# Altium footprint library Capacitors.PcbLib: 19 footprints (part 1 of 2)
Each footprint in its own frame and in the unit in brackets; x right, y up, seen from the top. Pads: shape width x height; smd on the part's side, far side on the other; paste and mask are expansions set on the pad; w line width, h text height; cw(c..) or ccw(c..) is an arc to the next point about the centre after c.
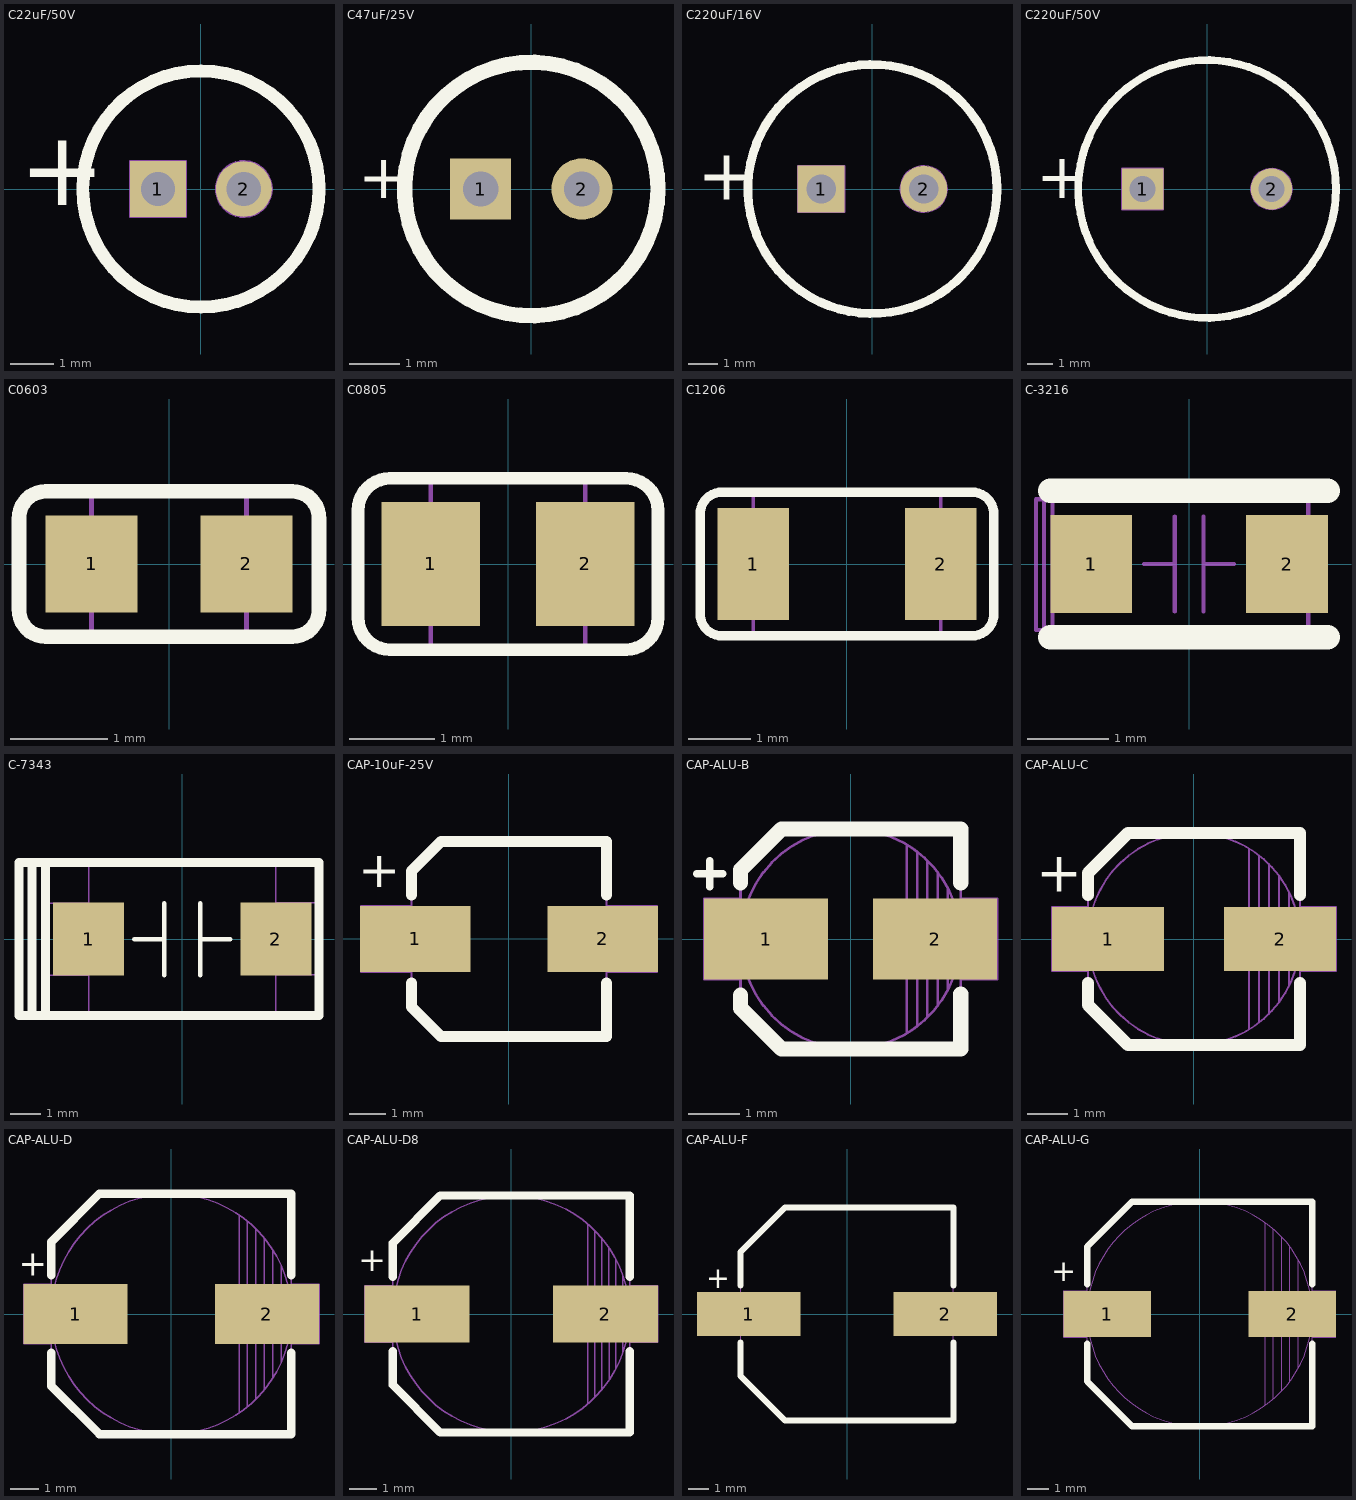
[diagram p0: the footprints below, top view; thin cyan lines are the x and y axes]

## C22uF/50V [mm]
height 12.5
pads (2):
  rect 1.3x1.3 hole 0.8 mask+0.1: 1(-1,0)
  round 1.3 hole 0.8 mask+0.1: 2(1,0)
Top Overlay:
  circle w0.3: c0,0 r2.75
  text "+" at -4.236,-0.946 h3
Top HCB:
  circle w0.05: c0,0 r2.75
  circle w0.05: c1,0 r0.65
  lines w0.05: -1.65,-0.65 -0.35,-0.65 -0.35,0.65 -1.65,0.65 -1.65,-0.65
  text ".Designator" at -2.253,0.774 h1
  text "+" at -4.236,-0.946 h3
  text "1" at -1.118,-0.322 h1
  text "2" at 0.787,-0.322 h1
3D body "User Library-Cap electro 5x11x2mm.STEP": height 11.53, standoff -3.27, extent -2.525,-2.525 2.526,2.526

## C47uF/25V [mm]
height 11
pads (2):
  rect 1.208x1.208 hole 0.7: 1(-1,0)
  round 1.208 hole 0.7: 2(1,0)
Top Overlay:
  circle w0.3: c0,0 r2.5
  text "+" at -3.417,-0.473 h1.5
Top HCB:
  circle w0.05: c0,0 r2.5
  text "+" at -3.417,-0.473 h1.5
  text ".Designator" at -1.127,0.987 h0.5
3D body "User Library-Cap electro 5x11x2mm.STEP": height 11.33, standoff -3.47, extent -2.525,-2.525 2.526,2.526

## C220uF/16V [mm]
height 12.5
pads (2):
  rect 1.6x1.6 hole 1 mask+0.1: 1(-1.75,0)
  round 1.6 hole 1 mask+0.1: 2(1.75,0)
Top Overlay:
  circle w0.3: c0,0 r4.25
  text "+" at -5.986,-0.946 h3
Top HCB:
  circle w0.05: c1.75,0 r0.8
  circle w0.05: c0,0 r4.25
  lines w0.05: -2.55,-0.8 -2.55,0.8 -0.95,0.8 -0.95,-0.8 -2.55,-0.8
  text "2" at 1.537,-0.322 h1
  text "1" at -1.868,-0.322 h1
  text "+" at -5.986,-0.946 h3
3D body "User Library-Cap electro 8x11_5x3_5mm.STEP": height 12.03, standoff -3.48, extent -4.025,-4.025 4.026,4.026

## C220uF/50V [mm]
height 16
pads (2):
  rect 1.6x1.6 hole 1 mask+0.1: 1(-2.5,0)
  round 1.6 hole 1 mask+0.1: 2(2.5,0)
Top Overlay:
  circle w0.3: c0,0 r5
  text "+" at -6.636,-0.946 h3
Top HCB:
  circle w0.05: c2.5,0 r0.8
  circle w0.05: c0,0 r5
  lines w0.05: -3.3,-0.8 -3.3,0.8 -1.7,0.8 -1.7,-0.8 -3.3,-0.8
  text ".Designator" at -2.253,-0.226 h1
  text "1" at -2.618,-0.322 h1
  text "2" at 2.287,-0.322 h1
  text "+" at -6.636,-0.946 h3
3D body "User Library-Cap electro 10x16x5_0mm.STEP": height 16.53, standoff -3.74, extent -5.025,-5.025 5.026,5.026

## C0603 [mm]
pads (2):
  rect 0.95x1 smd: 1(-0.8,0) 2(0.8,0)
Top Overlay:
  lines w0.15: -1.55,-0.475 ccw(c-1.275,-0.475) -1.275,-0.75 1.275,-0.75 ccw(c1.275,-0.475) 1.55,-0.475 1.55,0.475 ccw(c1.275,0.475) 1.275,0.75 -1.275,0.75 ccw(c-1.275,0.475) -1.55,0.475 -1.55,-0.475
Top HCB:
  lines w0.05: -0.8,-0.75 -0.8,0.75 ; 0.8,-0.75 0.8,0.75 ; -1.55,-0.475 ccw(c-1.275,-0.475) -1.275,-0.75 1.275,-0.75 ccw(c1.275,-0.475) 1.55,-0.475 1.55,0.475 ccw(c1.275,0.475) 1.275,0.75 -1.275,0.75 ccw(c-1.275,0.475) -1.55,0.475 -1.55,-0.475
  text ".Designator" at -1.127,-0.113 h0.5
3D body "06035C104JAT2A.stp": height 0.9, standoff 0, extent -0.82,-0.405 0.78,0.405

## C0805 [mm]
height 1
pads (2):
  rect 1.15x1.45 smd: 1(-0.9,0) 2(0.9,0)
Top Overlay:
  lines w0.15: -1.75,-0.625 ccw(c-1.375,-0.625) -1.375,-1 1.375,-1 ccw(c1.375,-0.625) 1.75,-0.625 1.75,0.625 ccw(c1.375,0.625) 1.375,1 -1.375,1 ccw(c-1.375,0.625) -1.75,0.625 -1.75,-0.625
Top HCB:
  lines w0.05: -0.9,-1 -0.9,1 ; 0.9,-1 0.9,1 ; -1.75,-0.625 ccw(c-1.375,-0.625) -1.375,-1 1.375,-1 ccw(c1.375,-0.625) 1.75,-0.625 1.75,0.625 ccw(c1.375,0.625) 1.375,1 -1.375,1 ccw(c-1.375,0.625) -1.75,0.625 -1.75,-0.625
  text ".Designator" at -1.127,-0.113 h0.5
3D body "0805 SMD Capacitor.step": height 0.8, standoff 0.02, extent -1,-0.625 1,0.625

## C1206 [mm]
pads (2):
  rect 1.15x1.8 smd: 1(-1.5,0) 2(1.5,0)
Top Overlay:
  lines w0.15: -2,1.15 ccw(c-2,0.8) -2.35,0.8 -2.35,-0.8 ccw(c-2,-0.8) -2,-1.15 2,-1.15 ccw(c2,-0.8) 2.35,-0.8 2.35,0.8 ccw(c2,0.8) 2,1.15 -2,1.15 ; -2,1.15 -2,1.15
Top HCB:
  lines w0.05: -1.5,-1.15 -1.5,1.15 ; 1.5,-1.15 1.5,1.15 ; -2,1.15 ccw(c-2,0.8) -2.35,0.8 -2.35,-0.8 ccw(c-2,-0.8) -2,-1.15 2,-1.15 ccw(c2,-0.8) 2.35,-0.8 2.35,0.8 ccw(c2,0.8) 2,1.15 -2,1.15 ; -2,1.15 -2,1.15
  text ".Designator" at -1.127,-0.113 h0.5
3D body "User Library-1206 SMD Capacitor.step": height 1, standoff 0, extent -1.6,-0.8 1.6,0.8

## C-3216 [mm]
height 1.6
pads (3):
  rect 1x1.2 smd: 1(-1.2,0) 1(-1.2,0) 2(1.2,0)
Top Overlay:
  lines w0.3: -1.7,-0.9 1.7,-0.9 ; -1.7,0.9 1.7,0.9
Top HCB:
  lines w0.05: -1.875,0.789 -1.875,-0.807 1.46,-0.807 ; -1.875,0.793 -1.675,0.793 ; -1.775,-0.805 -1.775,0.791 ; -1.675,-0.803 -1.675,0.793 ; -0.55,0 -0.175,0 ; -0.175,-0.58 -0.175,0.579 ; 0.175,-0.58 0.175,0.579 ; 0.175,0 0.55,0 ; 1.46,-0.803 1.46,0.793 -1.675,0.793
  text ".Designator" at -1.126,0.787 h0.5
3D body "User Library-CAP_TAN_C3216_1206.STEP": height 1.8, standoff 0, extent -1.7,-0.9 1.7,0.9

## C-7343 [mm] "Tantalum"
height 2.8
pads (2):
  rect 2.37x2.43 smd: 1(-3.12,0) 2(3.12,0)
Top Overlay:
  lines w0.15: -1.6,0 -0.6,0 ; -0.6,-1.2 -0.6,1.2 ; 0.6,0 1.6,0 ; 0.6,-1.2 0.6,1.2
  lines w0.3: -5,-2.55 -5.44,-2.55 -5.44,2.55 -5,2.55 ; -5,-2.55 -4.56,-2.55 ; -5,-2.55 -5,2.55 ; -5,2.55 -4.56,2.55 ; -4.56,-2.55 4.56,-2.55 4.56,2.55 -4.56,2.55 ; -4.56,-2.55 -4.56,2.55
Top HCB:
  lines w0.05: -3.12,-1.2 -3.12,-2.55 3.12,-2.55 3.12,-1.2 ; -3.12,-1.2 -3.12,1.2 ; -3.12,-1.2 -4.56,-1.2 -4.56,1.2 -3.12,1.2 ; -3.12,1.2 -3.12,2.55 3.12,2.55 3.12,1.2 ; 3.12,-1.2 3.12,1.2 ; 3.12,-1.2 4.56,-1.2 4.56,1.2 3.12,1.2
  text "+" at -4.225,1.35 h1
  text ".Designator" at -1.127,-0.113 h0.5
3D body "TU_TATA_SMD7343.step": height 4, standoff 0, extent -3.8,-2.3 3.8,2.3

## CAP-10uF-25V [mm]
pads (2):
  rect 3x1.8 smd: 1(-2.55,0) 2(2.55,0)
Top Overlay:
  lines w0.3: -2.65,-1.2 -2.65,-1.85 -1.85,-2.65 2.65,-2.65 2.65,-1.2 ; -2.65,1.2 -2.65,1.85 -1.85,2.65 2.65,2.65 2.65,1.2
  text "+" at -4.1,1.4 h1
Top HCB:
  lines w0.05: -2.65,-0.9 -4.025,-0.9 -4.025,0.9 -2.65,0.9 ; 2.65,-0.9 4.025,-0.9 4.025,0.9 2.65,0.9 ; -2.65,-1.85 -1.85,-2.65 2.65,-2.65 2.65,2.65 -1.85,2.65 -2.65,1.85 -2.65,-1.85
  text ".Designator" at -2.064,-0.411 h1
  text "+" at -3.85,1.525 h1
3D body "EEE-HD1E100AR.stp": height 6.1, standoff 0, extent -3.25,-2.75 3.25,2.75

## CAP-ALU-B [mm]
height 6.1
pads (2):
  rect 2.42x1.58 smd: 1(-1.65,0) 2(1.65,0)
Top Overlay:
  lines w0.15: -3,1.275 -2.5,1.275 ; -2.75,1.025 -2.75,1.525
  lines w0.3: -2.15,-1.1 -2.15,-1.35 -1.35,-2.15 2.15,-2.15 2.15,-1.075 ; -2.15,1.1 -2.15,1.35 -1.35,2.15 2.15,2.15 2.15,1.1
Top HCB:
  circle w0.05: c0,0 r2.145
  circle w0.05: c0,0 r2.145
  lines w0.05: 1.1,-1.825 1.1,0 1.1,1.825 ; 1.3,-1.7 1.3,0 1.3,1.7 ; 1.5,-1.5 1.5,0 1.5,1.5 ; 1.7,-1.3 1.7,0 1.7,1.3 ; 1.9,-0.975 1.9,0 1.9,0.975 ; -2.15,-1.35 -2.15,1.35 ; -2.15,-1.35 -2.15,1.35 ; -2.15,-1.35 -1.35,-2.15 ; -2.15,-1.35 -1.35,-2.15 ; -2.15,1.35 -1.35,2.15 ; -2.15,1.35 -1.35,2.15 ; -1.35,-2.15 2.15,-2.15 ; -1.35,-2.15 2.15,-2.15 ; -1.35,2.15 2.15,2.15 ; -1.35,2.15 2.15,2.15 ; 2.15,-2.15 2.15,2.15 ; 2.15,-2.15 2.15,2.15 ; -2.86,-0.79 -2.15,-0.79 -2.15,0.79 -2.86,0.79 -2.86,-0.79 ; 2.15,-0.79 2.86,-0.79 2.86,0.79 2.15,0.79 2.15,-0.79
  text ".Designator" at -1.127,-0.113 h0.5
  text "+" at -2.975,0.975 h1
3D body "34800.stp": height 6.2, standoff 0.2, extent -2.65,-2.7 2.65,2.6

## CAP-ALU-C [mm]
height 6.1
pads (2):
  rect 2.8x1.6 smd paste+0.1: 1(-2.15,0) 2(2.15,0)
Top Overlay:
  lines w0.3: -2.65,-1.1 -2.65,-1.65 -1.65,-2.65 2.65,-2.65 2.65,-1.1 ; -2.65,1.1 -2.65,1.65 -1.65,2.65 2.65,2.65 2.65,1.1
  text "+" at -3.95,1.183 h1
Top HCB:
  circle w0.05: c0,0 r2.65
  lines w0.05: -2.65,-0.8 -3.55,-0.8 -3.55,0.8 -2.65,0.8 ; 1.375,-2.25 1.375,0 1.375,2.25 ; 1.625,-2.075 1.625,0 1.625,2.075 ; 1.875,-1.875 1.875,0 1.875,1.875 ; 2.125,-1.575 2.125,0 2.125,1.575 ; 2.375,-1.175 2.375,0 2.375,1.175 ; 2.65,-0.8 3.55,-0.8 3.55,0.8 2.65,0.8 ; -2.65,1.65 -2.65,-1.65 -1.65,-2.65 2.65,-2.65 2.65,2.65 -1.65,2.65 ; -2.65,1.65 -1.65,2.65 ; -2.65,1.65 -1.65,2.65
  text "+" at -3.95,1.183 h1
  text ".Designator" at -1.127,-0.113 h0.5
3D body "User Library-capacitor size C.STEP": height 5.41, standoff -0.01, extent -2.95,-2.65 2.95,2.65

## CAP-ALU-D [mm]
height 6.1
pads (2):
  rect 3.69x2.12 smd: 1(-3.39,0) 2(3.39,0)
Top Overlay:
  lines w0.3: -4.25,-1.38 -4.25,-2.56 -2.55,-4.257 4.25,-4.257 4.25,-1.38 ; -4.25,1.38 -4.25,2.56 -2.56,4.257 4.25,4.257 4.25,1.38
  text "+" at -5.4,1.05 h1.5
Top HCB:
  circle w0.05: c0,0 r4.257
  lines w0.05: 2.4,-3.5 2.4,0.025 2.4,3.5 ; 2.7,-3.275 2.7,0.025 2.7,3.275 ; 3,-3 3,0.025 3,3 ; 3.3,-2.675 3.3,0.025 3.3,2.675 ; 3.6,-2.25 3.6,0.025 3.6,2.25 ; 3.9,-1.7 3.9,0.025 3.9,1.7 ; -4.25,-2.56 -4.25,2.56 ; -4.25,-2.56 -4.25,2.56 ; -4.25,-2.56 -2.55,-4.25 ; -4.25,-2.56 -2.55,-4.25 ; -4.25,2.56 -2.55,4.25 ; -4.25,2.56 -2.55,4.25 ; -2.55,-4.25 4.25,-4.25 ; -2.55,-4.25 4.25,-4.25 ; -2.55,4.25 4.25,4.25 ; -2.55,4.25 4.25,4.25 ; 4.25,-4.25 4.25,4.25 ; 4.25,-4.25 4.25,4.25 ; -5.235,-1.06 -4.25,-1.06 -4.25,1.06 -5.235,1.06 -5.235,-1.06 ; 4.25,-1.06 5.235,-1.06 5.235,1.06 4.25,1.06 4.25,-1.06
  text ".Designator" at -1.127,-0.113 h0.5
  text "+" at -5.4,1.05 h1.5
3D body "34912.stp": height 8.1, standoff 0, extent -3.3,-3.2 3.3,3.4

## CAP-ALU-D8 [mm]
height 8
pads (2):
  rect 3.77x2.03 smd: 1(-3.38,0) 2(3.38,0)
Top Overlay:
  lines w0.3: -4.25,-1.335 -4.25,-2.55 -2.55,-4.25 4.25,-4.25 4.25,-1.335 ; -4.25,1.335 -4.25,2.55 -2.55,4.25 4.25,4.25 4.25,1.335
  text "+" at -5.5,1.25 h1.5
Top HCB:
  circle w0.05: c0,0 r4.243
  lines w0.05: 2.75,-3.225 2.75,3.225 ; 3,-3 3,3 ; 3.25,-2.725 3.25,2.725 ; 3.5,2.4 3.516,-2.375 ; 3.75,-1.975 3.75,1.975 ; 4,-1.4 4,1.4 ; -4.25,-2.55 -4.25,2.55 ; -4.25,-2.55 -4.25,2.55 ; -4.25,-2.55 -2.55,-4.25 ; -4.25,-2.55 -2.55,-4.25 ; -4.25,2.55 -2.55,4.25 ; -4.25,2.55 -2.55,4.25 ; -2.55,-4.25 4.25,-4.25 ; -2.55,-4.25 4.25,-4.25 ; -2.55,4.25 4.25,4.25 ; -2.55,4.25 4.25,4.25 ; 4.25,-4.25 4.25,4.25 ; 4.25,-4.25 4.25,4.25 ; -5.265,-1.015 -4.25,-1.015 -4.25,1.015 -5.265,1.015 -5.265,-1.015 ; 4.25,-1.015 5.265,-1.015 5.265,1.015 4.25,1.015 4.25,-1.015
  text "+" at -5.5,1.25 h1.5
  text "+" at -5.5,1.25 h1.5
  text ".Designator" at -2.064,-0.411 h1
3D body "a765kn227m1clae016.stp": height 10, standoff 0, extent -4.8,-4.25 4.8,4.25

## CAP-ALU-F [mm]
height 10.5
pads (2):
  rect 5.01x2.12 smd: 1(-4.75,0) 2(4.75,0)
Top Overlay:
  lines w0.3: -5.15,-1.38 -5.15,-3 -3,-5.15 5.15,-5.15 5.15,-1.38 ; -5.15,1.38 -5.15,3 -3,5.15 5.15,5.15 5.15,1.38
  text "+" at -6.81,1.25 h1
Top HCB:
  lines w0.05: -5.15,-3 -5.15,3 ; -5.15,-3 -5.15,3 ; -5.15,-3 -3,-5.15 ; -5.15,-3 -3,-5.15 ; -5.15,3 -3,5.15 ; -5.15,3 -3,5.15 ; -3,-5.15 5.15,-5.15 ; -3,-5.15 5.15,-5.15 ; -3,5.15 5.15,5.15 ; -3,5.15 5.15,5.15 ; 5.15,-5.15 5.15,5.15 ; 5.15,-5.15 5.15,5.15
  text "+" at -6.81,1.25 h1
  text ".Designator" at -2.064,-0.411 h1
3D body "36488.stp": height 10.5, standoff 0, extent -5.15,-5.2 5.15,5.1

## CAP-ALU-G [mm]
height 10.5
pads (2):
  rect 4x2.12 smd: 1(-4.24,0) 2(4.24,0)
Top Overlay:
  lines w0.3: -5.15,-1.374 -5.15,-3.09 -3.09,-5.15 5.15,-5.15 5.15,-1.374 ; -5.15,1.374 -5.15,3.09 -3.09,5.15 5.15,5.15 5.15,1.374
  text "+" at -6.8,1.5 h1
Top HCB:
  circle w0.05: c0,0 r5.15
  lines w0.05: -5.15,-1.06 -6.24,-1.06 -6.24,1.06 -5.15,1.06 ; 3,-4.175 3,0 3,4.175 ; 3.375,-3.875 3.375,0 3.375,3.875 ; 3.75,-3.5 3.75,0 3.75,3.5 ; 4.125,-3.09 4.125,0 4.125,3.09 ; 4.5,-2.475 4.5,0 4.5,2.475 ; 5.15,-1.06 6.24,-1.06 6.24,1.06 5.15,1.06 ; -5.15,-3.09 -3.09,-5.15 ; -5.15,-3.09 -3.09,-5.15 ; -5.15,-3.09 -5.15,3.09 ; -5.15,-3.09 -5.15,3.09 ; -5.15,3.09 -3.09,5.15 ; -5.15,3.09 -3.09,5.15 ; -3.09,-5.15 5.15,-5.15 ; -3.09,-5.15 5.15,-5.15 ; -3.09,5.15 5.15,5.15 ; -3.09,5.15 5.15,5.15 ; 5.15,-5.15 5.15,5.15 ; 5.15,-5.15 5.15,5.15
  text ".Designator" at -2.064,-0.411 h1
  text "+" at -6.8,1.5 h1
3D body "User Library-ALU-G.STEP": height 10.2, standoff 0, extent -5.8,-5.15 5.8,5.15